# Altium footprint library HEADER4X3.PcbLib: 1 footprints
Each footprint in its own frame and in the unit in brackets; x right, y up, seen from the top. Pads: shape width x height; smd on the part's side, far side on the other; paste and mask are expansions set on the pad; w line width, h text height; cw(c..) or ccw(c..) is an arc to the next point about the centre after c.
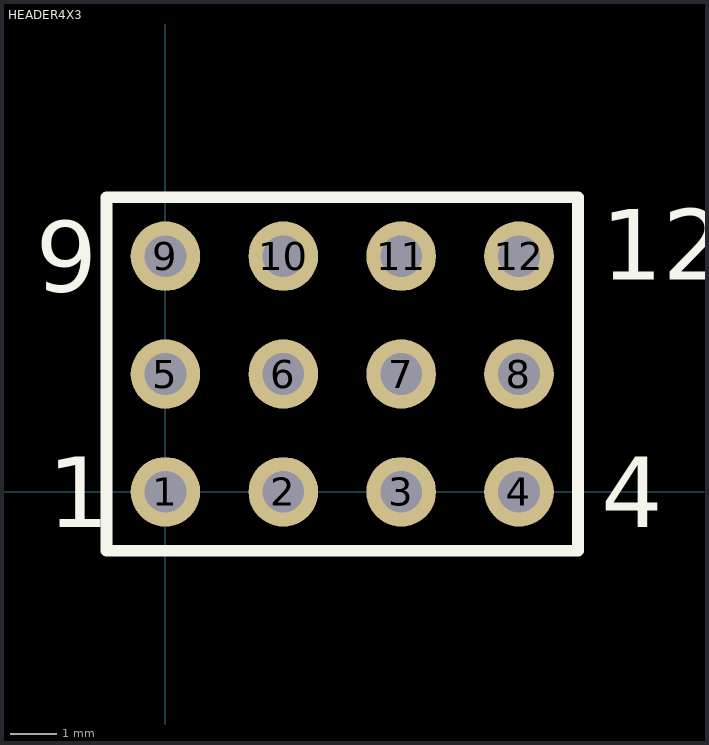
[diagram p0: the footprint, top view; thin cyan lines are the x and y axes]

## HEADER4X3 [mm]
height 10
pads (12):
  round 1.5 hole 0.9: 1(0,0) 2(2.54,0) 3(5.08,0) 4(7.62,0) 5(0,2.54) 6(2.54,2.54) 7(5.08,2.54) 8(7.62,2.54) 9(0,5.08) 10(2.54,5.08) 11(5.08,5.08) 12(7.62,5.08)
Top Overlay:
  lines w0.254: -1.27,-1.27 -1.27,6.35 8.89,6.35 8.89,-1.27 -1.27,-1.27
  text "12" at 9.398,4.572 h1.52
  text "1" at -2.54,-0.762 h1.52
  text "4" at 9.398,-0.762 h1.52
  text "9" at -2.794,4.318 h1.52